# Altium footprint library CommonPcb.PcbLib: 194 footprints (part 13 of 13)
Each footprint in its own frame and in the unit in brackets; x right, y up, seen from the top. Pads: shape width x height; smd on the part's side, far side on the other; paste and mask are expansions set on the pad; w line width, h text height; cw(c..) or ccw(c..) is an arc to the next point about the centre after c.
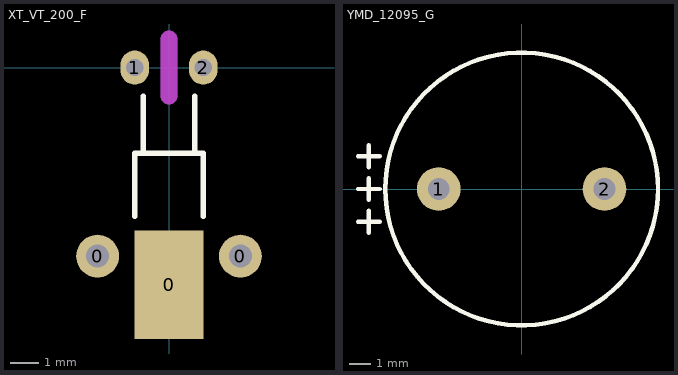
[diagram p12: the footprints below, top view; thin cyan lines are the x and y axes]

## XT_VT_200_F [mm] "32768Hz"
pads (5):
  round 1.5 hole 0.8 mask+0.1: 0(-2.5,-6.6) 0(2.5,-6.6)
  rect 2.4x3.8 smd paste-1.2 mask+0.1: 0(0,-7.6)
  oval 1x1.2 hole 0.6 mask+0.1: 1(-1.2,0) 2(1.2,0)
Top Overlay:
  lines w0.2: -1.2,-5.2 -1.2,-3 1.2,-3 1.2,-5.2 ; -0.9,-3 -0.9,-1 ; 0.9,-3 0.9,-1
Keep-Out Layer:
  lines w0.6: 0,-1 0,1
Mechanical 1:
  lines w0.6: 0,-1 0,1
3D body: height 0, standoff 0, extent -3.499,-9.999 3.499,1.499

## YMD_12095_G [mm] "YMD_12095_G"
pads (2):
  round 2 hole 1 mask+0.1: 1(-3.8,0) 2(3.8,0)
Top Overlay:
  circle w0.2: c0,0 r6.25
  lines w0.2: -7.5,-1.5 -6.5,-1.5 ; -7.5,0 -6.5,0 ; -7.5,1.5 -6.5,1.5 ; -7,-2 -7,-1 ; -7,-0.5 -7,0.5 ; -7,1 -7,2
3D body: height 0, standoff 0, extent -6.249,-6.249 6.249,6.249